# Altium footprint library Connectors.PcbLib: 77 footprints (part 2 of 5)
Each footprint in its own frame and in the unit in brackets; x right, y up, seen from the top. Pads: shape width x height; smd on the part's side, far side on the other; paste and mask are expansions set on the pad; w line width, h text height; cw(c..) or ccw(c..) is an arc to the next point about the centre after c.
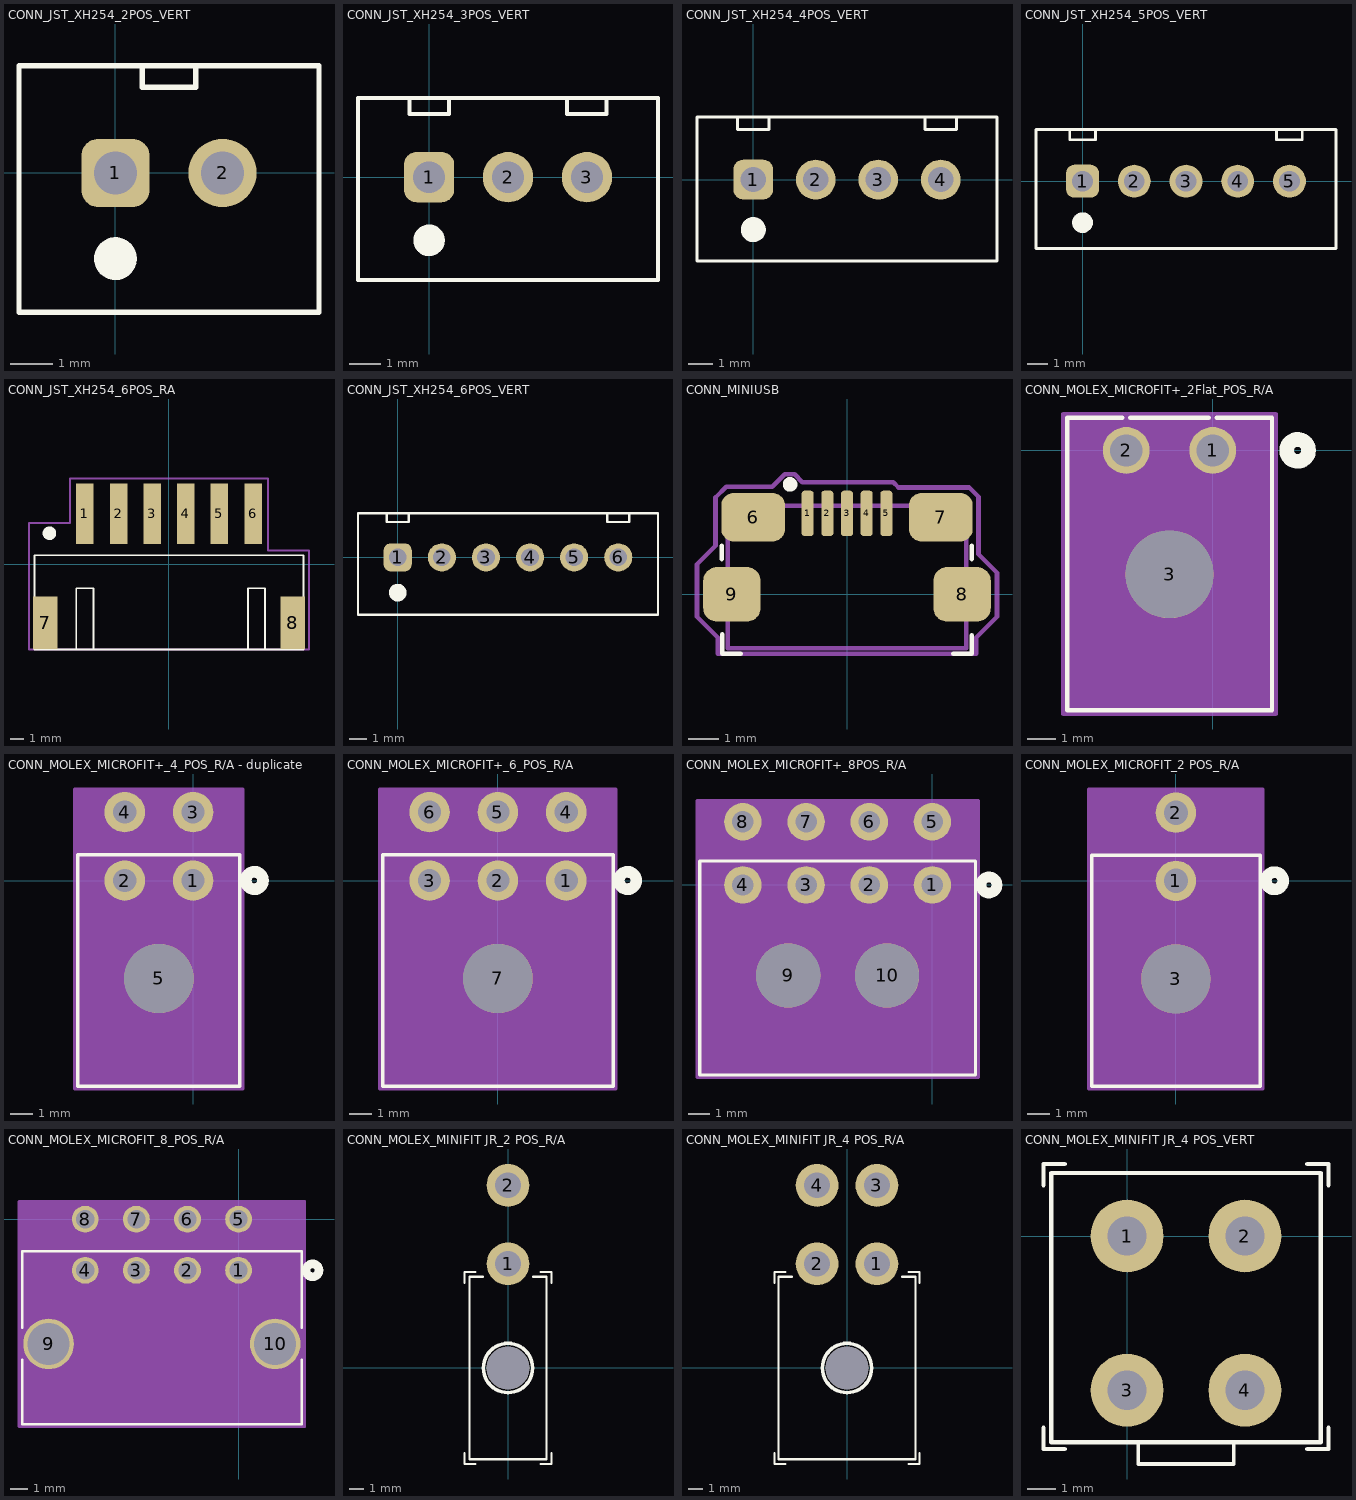
[diagram p1: the footprints below, top view; thin cyan lines are the x and y axes]

## CONN_JST_XH254_2POS_VERT [mm] "JST XH 2.54mm Pitch 2 Pos Vertical"
pads (2):
  rrect50% 1.62x1.62 hole 1.02: 1(0,0)
  round 1.62 hole 1.02: 2(2.54,0)
Top Overlay:
  circle w0.508: c0,-2.032 r0.254
  lines w0.127: -2.286,-3.302 -2.286,2.54 4.826,2.54 4.826,-3.302 -2.286,-3.302 ; 0.635,2.032 0.635,2.54 1.905,2.54 1.905,2.032 0.635,2.032
3D body "JST - XH - Thru (V) - 2Pin - 2.54mm.stp": height 7.21, standoff -3, extent -2.337,-3.353 4.877,2.489

## CONN_JST_XH254_3POS_VERT [mm] "JST XH 2.54mm Pitch 3 Pos Vertical"
pads (3):
  rrect50% 1.62x1.62 hole 1.02: 1(0,0)
  round 1.62 hole 1.02: 2(2.54,0) 3(5.08,0)
Top Overlay:
  circle w0.508: c0,-2.032 r0.254
  lines w0.127: -2.286,-3.302 -2.286,2.54 7.366,2.54 7.366,-3.302 -2.286,-3.302 ; -0.635,2.032 -0.635,2.54 0.635,2.54 0.635,2.032 -0.635,2.032 ; 4.445,2.032 5.715,2.032 5.715,2.54 4.445,2.54 4.445,2.032
3D body "JST - XH - Thru (V) - 3Pin - 2.54mm.stp": height 7.21, standoff -3, extent -2.337,-3.353 7.417,2.489

## CONN_JST_XH254_4POS_VERT [mm] "JST XH 2.54mm Pitch 4 Pos Vertical"
pads (4):
  rrect50% 1.62x1.62 hole 1.02: 1(0,0)
  round 1.62 hole 1.02: 2(2.54,0) 3(5.08,0) 4(7.62,0)
Top Overlay:
  circle w0.508: c0,-2.032 r0.254
  lines w0.127: -2.286,-3.302 9.906,-3.302 9.906,2.54 -2.286,2.54 -2.286,-3.302 ; -0.635,2.032 0.635,2.032 0.635,2.54 -0.635,2.54 -0.635,2.032 ; 6.985,2.032 6.985,2.54 8.255,2.54 8.255,2.032 6.985,2.032
3D body "JST - XH - Thru (V) - 4Pin - 2.54mm.stp": height 7.21, standoff -3, extent -2.337,-3.353 9.957,2.489

## CONN_JST_XH254_5POS_VERT [mm] "JST XH 2.54mm Pitch 5 Pos Vertical"
pads (5):
  rrect50% 1.62x1.62 hole 1.02: 1(0,0)
  round 1.62 hole 1.02: 2(2.54,0) 3(5.08,0) 4(7.62,0) 5(10.16,0)
Top Overlay:
  circle w0.508: c0,-2.032 r0.254
  lines w0.127: -2.286,-3.302 12.446,-3.302 12.446,2.54 -2.286,2.54 -2.286,-3.302 ; -0.635,2.032 0.635,2.032 0.635,2.54 -0.635,2.54 -0.635,2.032 ; 9.525,2.032 10.795,2.032 10.795,2.54 9.525,2.54 9.525,2.032
3D body "JST - XH - Thru (V) - 5Pin - 2.54mm.stp": height 7.21, standoff -3, extent -2.337,-3.353 12.497,2.489

## CONN_JST_XH254_6POS_RA [mm] "JST XH 2.54mm Pitch 6 Pos Right Angle"
pads (8):
  rect 1.3x4.5 smd: 1(-6.25,3.75) 2(-3.75,3.75) 3(-1.25,3.75) 4(1.25,3.75) 5(3.75,3.75) 6(6.25,3.75)
  rect 1.8x3.9 smd: 7(-9.2,-4.375) 8(9.2,-4.375)
Top Overlay:
  circle w0.508: c-8.89,2.286 r0.254
  lines w0.127: -10,-6.35 -10,0.65 10,0.65 10,-6.35 -10,-6.35 ; -6.885,-6.35 -5.615,-6.35 -5.615,-1.795 -6.885,-1.795 -6.885,-6.35 ; 5.869,-6.35 7.139,-6.35 7.139,-1.795 5.869,-1.795 5.869,-6.35
Boundary:
  lines w0.152: -10.033,-6.35 10.414,-6.35 10.414,1.016 7.366,1.016 7.366,2.286 7.366,6.35 5.842,6.35 -6.096,6.35 -7.366,6.35 -7.366,3.81 -7.366,3.048 -10.414,3.048 -10.414,-4.318 -10.414,-6.35 -10.16,-6.35 -9.906,-6.35
3D body "User Library-S6B-XH-SM4-TB.step": height 6.01, standoff 0.01, extent -9.975,-6.27 9.975,3.73

## CONN_JST_XH254_6POS_VERT [mm] "JST XH 2.54mm Pitch 6 Pos Vertical"
pads (6):
  rrect50% 1.62x1.62 hole 1.02: 1(0,0)
  round 1.62 hole 1.02: 2(2.54,0) 3(5.08,0) 4(7.62,0) 5(10.16,0) 6(12.7,0)
Top Overlay:
  circle w0.508: c0,-2.032 r0.254
  lines w0.127: -2.286,-3.302 14.986,-3.302 14.986,2.54 -2.286,2.54 -2.286,-3.302 ; -0.635,2.032 0.635,2.032 0.635,2.54 -0.635,2.54 -0.635,2.032 ; 12.065,2.032 13.335,2.032 13.335,2.54 12.065,2.54 12.065,2.032
3D body "JST - XH - Thru V - 6Pin - 2.54mm.stp": height 7.21, standoff -3, extent -2.337,-3.353 15.037,2.489

## CONN_MINIUSB [mm] "USB2.0 Micro-B Receptacle SMD R/A"
pads (9):
  rrect50% 0.4x1.5 smd: 1(-1.3,2.675) 2(-0.65,2.675) 3(0,2.675) 4(0.65,2.675) 5(1.3,2.675)
  rrect50% 2.1x1.6 smd: 6(-3.1,2.55) 7(3.1,2.55)
  rrect50% 1.9x1.8 smd: 8(3.8,0) 9(-3.8,0)
Top Overlay:
  circle w0.254: c-1.88,3.632 r0.114
  lines w0.152: -4.14,1.168 -4.14,1.6 ; -4.115,-1.321 -4.115,-1.956 -3.505,-1.956 ; 3.505,-1.956 4.115,-1.956 4.115,-1.346 ; 4.115,1.168 4.115,1.6
Mechanical 1:
  lines w0.152: -3.937,-1.778 -3.937,2.921 3.937,2.921 3.937,-1.778 -3.937,-1.778
Boundary:
  lines w0.152: -4.953,-0.737 -4.267,-1.422 -4.267,-1.956 4.267,-1.956 4.267,-1.422 4.953,-0.737 4.953,0.711 4.343,1.321 4.343,1.93 4.343,3.226 4.039,3.531 1.702,3.531 1.524,3.708 -1.473,3.708 -1.727,3.962 -2.057,3.962 -2.464,3.556 -3.988,3.556 -4.343,3.2 -4.343,1.6 -4.953,0.991 -4.953,-0.737
3D body "10118192C.stp": height 2.72, standoff -0.29, extent -3.956,-2.667 3.956,2.994

## CONN_MOLEX_MICROFIT+_2Flat_POS_R/A [mil] "CONN HEADER R/A 2POS 3MM"
pads (3):
  round 64 hole 44 paste-99999 mask+0: 1(0,0) 2(-118.11,0)
  round 120 hole 120 unplated paste-99999 mask+0: 3(-59.06,-169.29)
Top Overlay:
  circle w20: c115.94,0 r15
  lines w6: -123.61,44.76 -199.06,44.76 -199.06,-355.24 80.94,-355.24 80.94,44.76 5.5,44.76 ; -112.61,44.76 -5.5,44.76
Bottom Overlay:
  circle w20: c115.94,0 r15
Mechanical 13:
  circle w20: c0,0 r15
  lines w1: -194.06,-350.24 -194.06,39.76 75.94,39.76 75.94,-350.24 -194.06,-350.24
Mechanical 15:
  region: 85.94,49.76 -204.06,49.76 -204.06,-360.24 85.94,-360.24
  lines w6: -204.06,-360.24 85.94,-360.24 85.94,49.76 -204.06,49.76 -204.06,-360.24
3D body "2157601002.stp": height 209.84, standoff -149.2, extent -194.84,-355.08 74.84,35.08

## CONN_MOLEX_MICROFIT+_4_POS_R/A - duplicate [mil] "CONN HEADER R/A 4POS 3MM"
pads (5):
  round 70 hole 40 paste-99999 mask+0: 1(0,0) 2(-118.11,0) 3(0,118.11) 4(-118.11,118.11)
  round 120 / inner round 60 / far side round 120 hole 120 unplated paste-99999 mask-60: 5(-59.05,-169.29)
Top Overlay:
  circle w20: c105.94,0 r15
  lines w6: -199.06,-355.24 -199.06,44.76 80.94,44.76 80.94,-355.24 -199.06,-355.24
Bottom Overlay:
  circle w20: c105.94,0 r15
Mechanical 13:
  circle w20: c0,-75 r15
  lines w1: -194.06,-350.24 -194.06,39.76 75.94,39.76 75.94,-350.24 -194.06,-350.24
Mechanical 15:
  region: 85.94,158.11 -204.06,158.11 -204.06,-360.24 85.94,-360.24
  lines w6: -204.06,-360.24 85.94,-360.24 85.94,158.11 -204.06,158.11 -204.06,-360.24
3D body "2125280400.stp": height 325.2, standoff -149.2, extent -194.69,-350.55 75,130.55

## CONN_MOLEX_MICROFIT+_6_POS_R/A [mil] "CONN HEADER R/A 6POS 3MM"
pads (7):
  round 70 / inner round 70 / far side oval 70x66.93 hole 40 paste-99999 mask+0: 1(118.11,0) 2(0,0) 3(-118.11,0) 4(118.11,118.11) 5(0,118.11) 6(-118.11,118.11)
  round 120 / inner round 60 / far side round 120 hole 120 unplated paste-99999 mask-60: 7(0,-169.29)
Top Overlay:
  circle w20: c224,0 r15
  lines w6: -199,-355.24 -199,44.76 199,44.76 199,-355.24 -199,-355.24
Bottom Overlay:
  circle w20: c224,0 r15
Mechanical 13:
  circle w20: c118.11,-75 r15
  lines w1: -194,-350.24 -194,39.76 194,39.76 194,-350.24 -194,-350.24
Mechanical 15:
  region: 204,158.11 -204,158.11 -204,-360.24 204,-360.24
  lines w6: -204,-360.24 204,-360.24 204,158.11 -204,158.11 -204,-360.24
3D body "2125280600.stp": height 325.2, standoff -149.2, extent -193.9,-352.56 193.9,128.54

## CONN_MOLEX_MICROFIT+_8POS_R/A [mil] "MICROFIT+ 212528"
pads (10):
  round 70 / inner oval 60x70 / far side round 70 hole 40 paste-99999 mask+0: 1(0,0) 2(-118.11,0) 3(-236.22,0) 4(-354.33,0) 5(0,118.11) 6(-118.11,118.11) 7(-236.22,118.11) 8(-354.33,118.11)
  round 120 / inner round 60 / far side round 120 hole 120 unplated paste-99999 mask-60: 9(-269.68,-169.29) 10(-84.65,-169.29)
Top Overlay:
  circle w20: c105.83,0 r15
  lines w6: -435.17,-355.24 80.83,-355.24 80.83,44.76 -435.17,44.76 -435.17,-355.24
Bottom Overlay:
  circle w20: c105.83,0 r15
Mechanical 13:
  circle w20: c0,-75 r15
  lines w1: -430.17,-350.24 75.83,-350.24 75.83,39.76 -430.17,39.76 -430.17,-350.24
Mechanical 15:
  region: 85.83,158.11 -440.17,158.11 -440.17,-360.24 85.83,-360.24
  lines w6: -440.17,-360.24 -440.17,158.11 85.83,158.11 85.83,-360.24 -440.17,-360.24
3D body "2125280800.stp": height 325.2, standoff -149.2, extent -430.91,-350.55 75,130.55

## CONN_MOLEX_MICROFIT_2 POS_R/A [mil] "0430450200"
pads (3):
  round 70 hole 42 paste-99999 mask+0: 1(0,0) 2(0,118.11)
  round 120 / inner round 60 / far side round 120 hole 120 unplated paste-99999 mask-60: 3(0,-170.08)
Top Overlay:
  circle w20: c171,0 r15
  lines w6: -146,-356.02 146,-356.02 146,43.98 -146,43.98 -146,-356.02
Bottom Overlay:
  circle w20: c171,0 r15
Mechanical 13:
  circle w20: c0,-75 r15
  lines w1: -141,-351.02 141,-351.02 141,38.98 -141,38.98 -141,-351.02
Mechanical 15:
  region: 151,159.11 -151,159.11 -151,-361.02 151,-361.02
  lines w6: -151,-361.02 -151,159.11 151,159.11 151,-361.02 -151,-361.02
3D body "430450200.stp": height 343.16, standoff -127.31, extent -140.75,-355.08 140.75,126.81

## CONN_MOLEX_MICROFIT_8_POS_R/A [mil] "CONN HEADER R/A 8POS 3MM"
pads (10):
  round 62 / inner round 60 / far side round 62 hole 42 paste-99999 mask+0: 1(0,-118.11) 2(-118.11,-118.11) 3(-236.22,-118.11) 4(-354.33,-118.11) 5(0,0) 6(-118.11,0) 7(-236.22,0) 8(-354.33,0)
  round 117 / inner round 60 / far side round 117 hole 97 paste-99999 mask-58.5: 9(-438.98,-288.19) 10(84.65,-288.19)
Top Overlay:
  circle w20: c170.83,-118.11 r15
  lines w6: -500.17,-325.37 -500.17,-474.13 145.83,-474.13 145.83,-325.37 ; -500.17,-251.01 -500.17,-74.13 145.83,-74.13 145.83,-251.01
Bottom Overlay:
  circle w20: c170.83,-118.11 r15
Mechanical 13:
  circle w20: c0,-193.11 r15
  lines w1: -495.17,-469.13 -495.17,-79.13 140.83,-79.13 140.83,-469.13 -495.17,-469.13
Mechanical 15:
  region: 153.15,41 -507.48,41 -507.48,-479.13 153.15,-479.13
  lines w6: -507.48,-479.13 153.15,-479.13 153.15,41 -507.48,41 -507.48,-479.13
3D body "430450821.stp": height 326.16, standoff -144.31, extent -499.88,-468.19 137.91,13.7

## CONN_MOLEX_MINIFIT JR_2 POS_R/A [mm] "Molex Minifit Jr 5569 2 Pos R/A"
pads (3):
  round 3 hole 1.8: 1(0,7.3) 2(0,12.8)
  round 3 hole 3 unplated mask+0: ""(0,0)
Top Overlay:
  circle w0.254: c0,0 r1.727
  lines w0.152: -3.048,-5.969 -3.048,-6.731 -2.286,-6.731 ; -3.048,5.969 -3.048,6.731 -2.286,6.731 ; -1.76,6.4 -2.7,6.4 -2.7,-6.4 2.7,-6.4 2.7,6.4 1.76,6.4 ; 2.286,-6.731 3.048,-6.731 3.048,-5.969 ; 2.286,6.731 3.048,6.731 3.048,5.969
3D body "026013114.stp": height 11.4, standoff -3.6, extent -2.7,-6.6 3.1,13.335

## CONN_MOLEX_MINIFIT JR_4 POS_R/A [mm] "Molex Minifit Jr 5569 4 Pos R/A"
pads (5):
  round 3 hole 1.8: 1(2.1,7.3) 2(-2.1,7.3) 3(2.1,12.8) 4(-2.1,12.8)
  round 3 hole 3 unplated mask+0: ""(0,0)
Top Overlay:
  circle w0.254: c0,0 r1.727
  lines w0.152: -5.08,-5.969 -5.08,-6.731 -4.318,-6.731 ; -5.08,5.969 -5.08,6.731 -4.318,6.731 ; -3.86,6.4 -4.8,6.4 -4.8,-6.4 4.8,-6.4 4.8,6.4 3.86,6.4 ; 4.318,-6.731 5.08,-6.731 5.08,-5.969 ; 4.318,6.731 5.08,6.731 5.08,5.969
3D body "026013115.stp": height 11.4, standoff -3.6, extent -4.8,-6.5 5.2,13.435

## CONN_MOLEX_MINIFIT JR_4 POS_VERT [mm] "Molex Minifit Jr 5566 4 Pos Vertical"
pads (4):
  round 2.6 hole 1.4: 1(0,0) 2(4.2,0) 3(0,-5.5) 4(4.2,-5.5)
Top Overlay:
  lines w0.127: 0.4,-8.128 3.8,-8.128 3.8,-7.35 0.4,-7.35 0.4,-8.128
  lines w0.152: -2.98,-6.831 -2.98,-7.593 -2.218,-7.593 ; -2.98,1.805 -2.98,2.567 -2.218,2.567 ; 6.418,-7.593 7.18,-7.593 7.18,-6.831 ; 6.418,2.567 7.18,2.567 7.18,1.805 ; -2.7,-7.35 6.9,-7.35 6.9,2.25 -2.7,2.25 -2.7,-7.35
3D body "039281043.stp": height 12.8, standoff -3.5, extent -3.1,-8.75 7.3,2.25